# EAGLE library part DS1215 (library dallas-rtc)
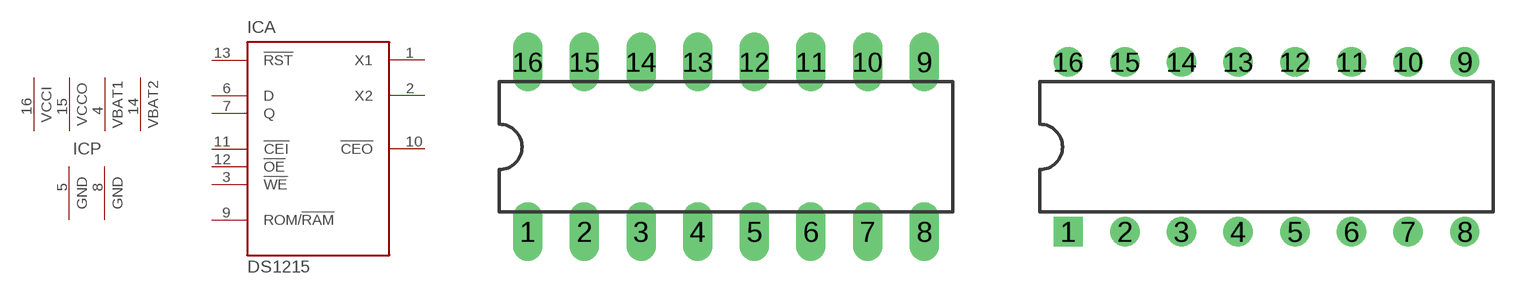
[diagram p4: symbol with the pads of DIL16; footprints DIL16, DIL16-RP]

Designator prefix IC; gates A=DS1215 P=PWR4GND2

## DS1215  [DIL16]
1  A:X1  in
2  A:X2  out
3  A:!WE  in
4  P:VBAT1  pwr
5  P:GND  pwr
6  A:D  in
7  A:Q  out
8  P:GND  pwr
9  A:ROM/!RAM  in
10  A:!CEO  out
11  A:!CEI  in
12  A:!OE  in
13  A:!RST  in
14  P:VBAT2  pwr
15  P:VCC_OUT  pwr
16  P:VCC  pwr

## DS1215-R  [DIL16-RP]
Pads as for DIL16

## DS1215S  [SO16L]
Pads as for DIL16

## Footprint DIL16 (pad centres in mm)
Dual In Line Package
drill 0.813 long: 1 -8.89,-3.81; 2 -6.35,-3.81; 3 -3.81,-3.81; 4 -1.27,-3.81; 5 1.27,-3.81; 6 3.81,-3.81; 7 6.35,-3.81; 8 8.89,-3.81; 9 8.89,3.81; 10 6.35,3.81; 11 3.81,3.81; 12 1.27,3.81; 13 -1.27,3.81; 14 -3.81,3.81; 15 -6.35,3.81; 16 -8.89,3.81

## Footprint DIL16-RP (pad centres in mm)
Dual In Line Package
drill 0.813 square: 1 -8.89,-3.81
drill 0.813: 2 -6.35,-3.81; 3 -3.81,-3.81; 4 -1.27,-3.81; 5 1.27,-3.81; 6 3.81,-3.81; 7 6.35,-3.81; 8 8.89,-3.81; 9 8.89,3.81; 10 6.35,3.81; 11 3.81,3.81; 12 1.27,3.81; 13 -1.27,3.81; 14 -3.81,3.81; 15 -6.35,3.81; 16 -8.89,3.81

## Footprint SO16L (pad centres in mm)
Small Outline Package
smd 0.66 x 2.032: 1 -4.445,-4.902; 2 -3.175,-4.902; 3 -1.905,-4.902; 4 -0.635,-4.902; 5 0.635,-4.902; 6 1.905,-4.902; 7 3.175,-4.902; 8 4.445,-4.902; 9 4.445,4.902; 10 3.175,4.902; 11 1.905,4.902; 12 0.635,4.902; 13 -0.635,4.902; 14 -1.905,4.902; 15 -3.175,4.902; 16 -4.445,4.902